# Altium footprint library RES0402.PcbLib: 1 footprints
Each footprint in its own frame and in the unit in brackets; x right, y up, seen from the top. Pads: shape width x height; smd on the part's side, far side on the other; paste and mask are expansions set on the pad; w line width, h text height; cw(c..) or ccw(c..) is an arc to the next point about the centre after c.
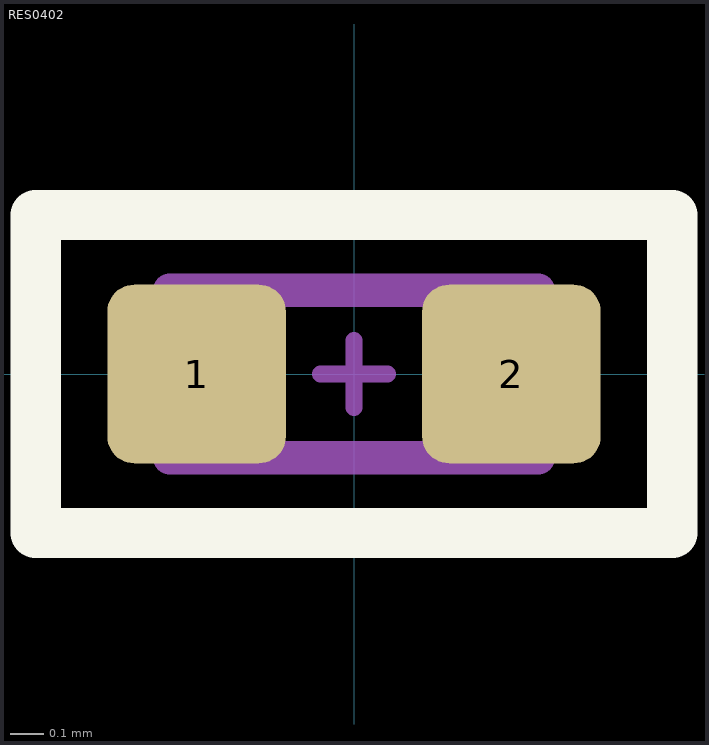
[diagram p0: the footprint, top view; thin cyan lines are the x and y axes]

## RES0402 [mil] "Generic 0402 PCB Footprint"
pads (2):
  rrect30% 21x21 smd mask+4: 1(-18.5,0) 2(18.5,0)
Top Overlay:
  lines w5.91: -37.4,-18.7 37.4,-18.7 37.4,18.7 -37.4,18.7 -37.4,-18.7
Top Designator:
  text ".Designator" at -299.9,-19.99 h60
Mechanical 13:
  lines w3.94: -21.65,-9.84 -21.65,9.84 21.65,9.84 21.65,-9.84 -21.65,-9.84
Mechanical 15:
  lines w1.97: -3.94,0 0,0 3.94,0 ; 0,-3.94 0,3.94
3D body "RES0402.stp": height 12.6, standoff 0, extent -19.69,-9.84 19.69,9.84